# Altium integrated library ON Semi Logic Decoder Demux.IntLib: 66 symbols (part 1 of 2)
Pins are listed as number, name and electrical type; pins without a type are passive.

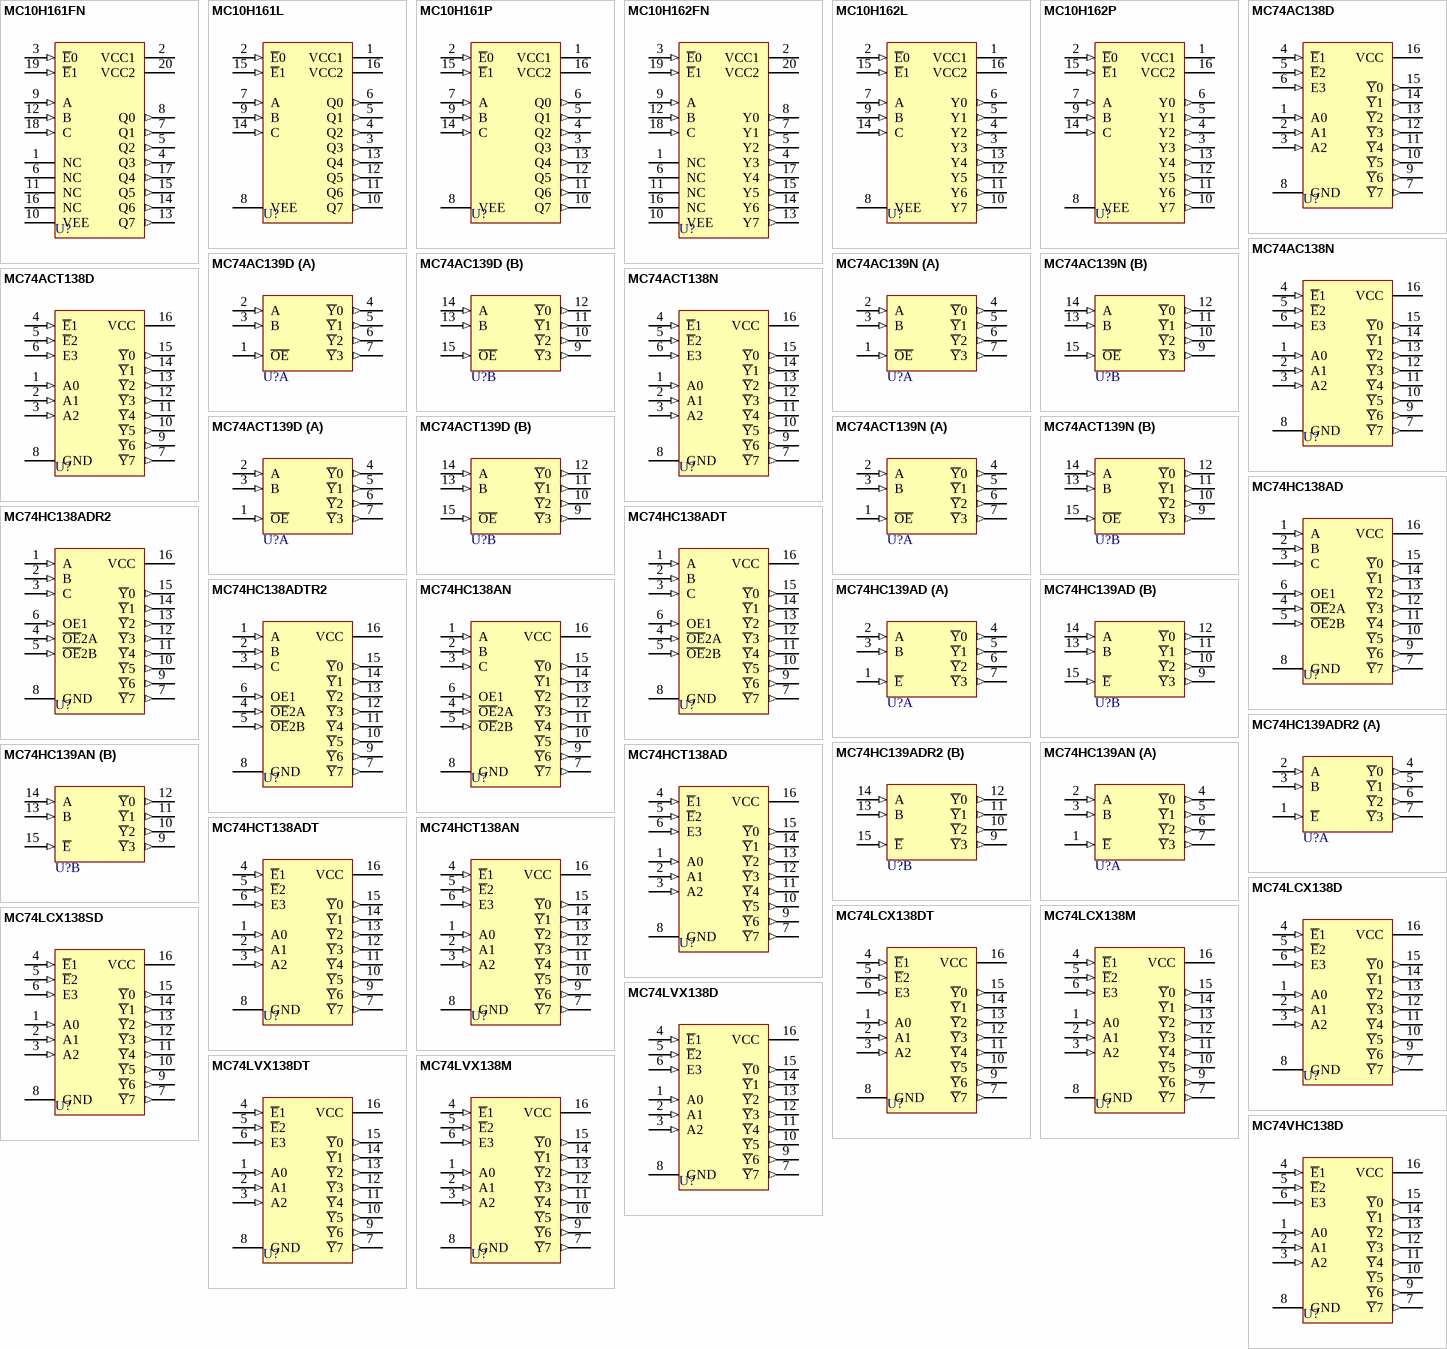
[diagram p0: symbols MC10H161FN to MC74VHC138D]

## MC10H161FN
designator U?
Binary to 1-8 Decoder (Low); Published: 15-Apr-2002; LatestRevisionDate: 13-Apr-2006; LatestRevisionNote: IPC-7351 Footprint Added.; DatasheetVersion: 1996; PackageVersion: 1996; PackageReference: 775-02; Publisher: Altium Limited; PackageDescription: 20-Pin Leaded Chip Carrier 1.27 mm Pitch; ComponentLink1Description: Manufacturer Link; ComponentLink1URL: http://www.onsemi.com/; ComponentLink2Description: Datasheet; ComponentLink2URL: http://www.onsemi.com/pub/Collateral/MC10H161-D.PDF
footprint 775-02_N (Leaded Chip Carrier, 20-Leads, Body 9x9mm, Pitch 1.27mm, IPC Medium Density)
footprint 775-02_L (Leaded Chip Carrier, 20-Leads, Body 9x9mm, Pitch 1.27mm, IPC High Density)
footprint 775-02_M (Leaded Chip Carrier, 20-Leads, Body 9x9mm, Pitch 1.27mm, IPC Low Density)
pins: 1 NC, 2 VCC1 (power), 3 ~{E}0 (in), 4 Q3 (out), 5 Q2 (out), 6 NC, 7 Q1 (out), 8 Q0 (out), 9 A (in), 10 VEE (power), 11 NC, 12 B (in), 13 Q7 (out), 14 Q6 (out), 15 Q5 (out), 16 NC, 17 Q4 (out), 18 C (in), 19 ~{E}1 (in), 20 VCC2 (power)

## MC10H161L
designator U?
Binary to 1-8 Decoder (Low); Published: 15-Apr-2002; DatasheetVersion: 1996; PackageVersion: 1996; PackageReference: 620-10; Publisher: Altium Limited; PackageDescription: DIP; 16 Leads; Row Spacing 7.62 mm; Pitch 2.54 mm; ComponentLink1Description: Manufacturer Link; ComponentLink1URL: http://www.onsemi.com/; ComponentLink2Description: Datasheet; ComponentLink2URL: http://www.onsemi.com/pub/Collateral/MC10H161-D.PDF
footprint 620-10 (DIP; 16 Leads; Row Spacing 7.62 mm; Pitch 2.54 mm)
pins: 1 VCC1 (power), 2 ~{E}0 (in), 3 Q3 (out), 4 Q2 (out), 5 Q1 (out), 6 Q0 (out), 7 A (in), 8 VEE (power), 9 B (in), 10 Q7 (out), 11 Q6 (out), 12 Q5 (out), 13 Q4 (out), 14 C (in), 15 ~{E}1 (in), 16 VCC2 (power)

## MC10H161P
designator U?
Binary to 1-8 Decoder (Low); Published: 15-Apr-2002; DatasheetVersion: 1996; PackageVersion: Apr-2000; PackageReference: 648-08; Publisher: Altium Limited; PackageDescription: DIP; 16 Leads; Row Spacing 7.62 mm; Pitch 2.54 mm; Code_JEDEC: MS-001-BB; ComponentLink1Description: Manufacturer Link; ComponentLink1URL: http://www.onsemi.com/; ComponentLink2Description: Datasheet; ComponentLink2URL: http://www.onsemi.com/pub/Collateral/MC10H161-D.PDF
footprint 648-08 (DIP; 16 Leads; Row Spacing 7.62 mm; Pitch 2.54 mm)
pins: 1 VCC1 (power), 2 ~{E}0 (in), 3 Q3 (out), 4 Q2 (out), 5 Q1 (out), 6 Q0 (out), 7 A (in), 8 VEE (power), 9 B (in), 10 Q7 (out), 11 Q6 (out), 12 Q5 (out), 13 Q4 (out), 14 C (in), 15 ~{E}1 (in), 16 VCC2 (power)

## MC10H162FN
designator U?
Binary to 1-8 Decoder (High); Published: 15-Apr-2002; LatestRevisionDate: 13-Apr-2006; LatestRevisionNote: IPC-7351 Footprint Added.; DatasheetVersion: 1996; PackageVersion: 1996; PackageReference: 775-02; Publisher: Altium Limited; PackageDescription: 20-Pin Leaded Chip Carrier 1.27 mm Pitch; ComponentLink1Description: Manufacturer Link; ComponentLink1URL: http://www.onsemi.com/; ComponentLink2Description: Datasheet; ComponentLink2URL: http://www.onsemi.com/pub/Collateral/MC10H162-D.PDF
footprint 775-02_N (Leaded Chip Carrier, 20-Leads, Body 9x9mm, Pitch 1.27mm, IPC Medium Density)
footprint 775-02_L (Leaded Chip Carrier, 20-Leads, Body 9x9mm, Pitch 1.27mm, IPC High Density)
footprint 775-02_M (Leaded Chip Carrier, 20-Leads, Body 9x9mm, Pitch 1.27mm, IPC Low Density)
pins: 1 NC, 2 VCC1 (power), 3 ~{E}0 (in), 4 Y3 (out), 5 Y2 (out), 6 NC, 7 Y1 (out), 8 Y0 (out), 9 A (in), 10 VEE (power), 11 NC, 12 B (in), 13 Y7 (out), 14 Y6 (out), 15 Y5 (out), 16 NC, 17 Y4 (out), 18 C (in), 19 ~{E}1 (in), 20 VCC2 (power)

## MC10H162L
designator U?
Binary to 1-8 Decoder (High); Published: 15-Apr-2002; DatasheetVersion: 1996; PackageVersion: 1996; PackageReference: 620-10; Publisher: Altium Limited; PackageDescription: DIP; 16 Leads; Row Spacing 7.62 mm; Pitch 2.54 mm; ComponentLink1Description: Manufacturer Link; ComponentLink1URL: http://www.onsemi.com/; ComponentLink2Description: Datasheet; ComponentLink2URL: http://www.onsemi.com/pub/Collateral/MC10H162-D.PDF
footprint 620-10 (DIP; 16 Leads; Row Spacing 7.62 mm; Pitch 2.54 mm)
pins: 1 VCC1 (power), 2 ~{E}0 (in), 3 Y3 (out), 4 Y2 (out), 5 Y1 (out), 6 Y0 (out), 7 A (in), 8 VEE (power), 9 B (in), 10 Y7 (out), 11 Y6 (out), 12 Y5 (out), 13 Y4 (out), 14 C (in), 15 ~{E}1 (in), 16 VCC2 (power)

## MC10H162P
designator U?
Binary to 1-8 Decoder (High); Published: 15-Apr-2002; DatasheetVersion: 1996; PackageVersion: Apr-2000; PackageReference: 648-08; Publisher: Altium Limited; PackageDescription: DIP; 16 Leads; Row Spacing 7.62 mm; Pitch 2.54 mm; Code_JEDEC: MS-001-BB; ComponentLink1Description: Manufacturer Link; ComponentLink1URL: http://www.onsemi.com/; ComponentLink2Description: Datasheet; ComponentLink2URL: http://www.onsemi.com/pub/Collateral/MC10H162-D.PDF
footprint 648-08 (DIP; 16 Leads; Row Spacing 7.62 mm; Pitch 2.54 mm)
pins: 1 VCC1 (power), 2 ~{E}0 (in), 3 Y3 (out), 4 Y2 (out), 5 Y1 (out), 6 Y0 (out), 7 A (in), 8 VEE (power), 9 B (in), 10 Y7 (out), 11 Y6 (out), 12 Y5 (out), 13 Y4 (out), 14 C (in), 15 ~{E}1 (in), 16 VCC2 (power)

## MC74AC138D
designator U?
1-of-8 Decoder/Demultiplexer; Published: 15-Apr-2002; LatestRevisionDate: 13-Apr-2006; LatestRevisionNote: IPC-7351 Footprint Added.; DatasheetVersion: 9-Apr-1996; PackageVersion: Oct-1999; PackageReference: 751B-05; Publisher: Altium Limited; PackageDescription: 16-Pin Small Outline Integrated Circuit 1.27 mm Pitch; Code_JEDEC: MS-012-AC; Code_IPC: SOIC127P600-16; ComponentLink1Description: Manufacturer Link; ComponentLink1URL: http://www.onsemi.com/; ComponentLink2Description: Datasheet; ComponentLink2URL: http://www.onsemi.com/pub/Collateral/MC74AC138-D.PDF
footprint 751B-05_N (SOIC, 16-Leads, Body 9.9x3.9mm, Pitch 1.27mm, IPC Medium Density)
footprint 751B-05_L (SOIC, 16-Leads, Body 9.9x3.9mm, Pitch 1.27mm, IPC High Density)
footprint 751B-05_M (SOIC, 16-Leads, Body 9.9x3.9mm, Pitch 1.27mm, IPC Low Density)
signal-integrity model MC74AC138D
pins: 1 A0 (in), 2 A1 (in), 3 A2 (in), 4 ~{E}1 (in), 5 ~{E}2 (in), 6 E3 (in), 7 ~{Y}7 (out), 8 GND (power), 9 ~{Y}6 (out), 10 ~{Y}5 (out), 11 ~{Y}4 (out), 12 ~{Y}3 (out), 13 ~{Y}2 (out), 14 ~{Y}1 (out), 15 ~{Y}0 (out), 16 VCC (power)

## MC74AC138N
designator U?
1-of-8 Decoder/Demultiplexer; Published: 15-Apr-2002; DatasheetVersion: 9-Apr-1996; PackageVersion: Apr-2000; PackageReference: 648-08; Publisher: Altium Limited; PackageDescription: DIP; 16 Leads; Row Spacing 7.62 mm; Pitch 2.54 mm; Code_JEDEC: MS-001-BB; ComponentLink1Description: Manufacturer Link; ComponentLink1URL: http://www.onsemi.com/; ComponentLink2Description: Datasheet; ComponentLink2URL: http://www.onsemi.com/pub/Collateral/MC74AC138-D.PDF
footprint 648-08 (DIP; 16 Leads; Row Spacing 7.62 mm; Pitch 2.54 mm)
signal-integrity model MC74AC138N
pins: 1 A0 (in), 2 A1 (in), 3 A2 (in), 4 ~{E}1 (in), 5 ~{E}2 (in), 6 E3 (in), 7 ~{Y}7 (out), 8 GND (power), 9 ~{Y}6 (out), 10 ~{Y}5 (out), 11 ~{Y}4 (out), 12 ~{Y}3 (out), 13 ~{Y}2 (out), 14 ~{Y}1 (out), 15 ~{Y}0 (out), 16 VCC (power)

## MC74AC139D
designator U?
Dual 1-of-4 Decoder/Demultiplexer; Published: 15-Apr-2002; LatestRevisionDate: 13-Apr-2006; LatestRevisionNote: IPC-7351 Footprint Added.; DatasheetVersion: 9-Apr-1996; PackageVersion: Oct-1999; PackageReference: 751B-05; Publisher: Altium Limited; PackageDescription: 16-Pin Small Outline Integrated Circuit 1.27 mm Pitch; Code_JEDEC: MS-012-AC; Code_IPC: SOIC127P600-16; ComponentLink1Description: Manufacturer Link; ComponentLink1URL: http://www.onsemi.com/; ComponentLink2Description: Datasheet; ComponentLink2URL: http://www.onsemi.com/pub/Collateral/MC74AC139-D.PDF
footprint 751B-05_N (SOIC, 16-Leads, Body 9.9x3.9mm, Pitch 1.27mm, IPC Medium Density)
footprint 751B-05_L (SOIC, 16-Leads, Body 9.9x3.9mm, Pitch 1.27mm, IPC High Density)
footprint 751B-05_M (SOIC, 16-Leads, Body 9.9x3.9mm, Pitch 1.27mm, IPC Low Density)
signal-integrity model MC74AC139D
pins on every part: 8 GND (power) hidden to GND, 16 VCC (power) hidden to VCC
part A pins: 1 ~{OE} (in), 2 A (in), 3 B (in), 4 ~{Y}0 (out), 5 ~{Y}1 (out), 6 ~{Y}2 (out), 7 ~{Y}3 (out)
part B pins: 9 ~{Y}3 (out), 10 ~{Y}2 (out), 11 ~{Y}1 (out), 12 ~{Y}0 (out), 13 B (in), 14 A (in), 15 ~{OE} (in)

## MC74AC139N
designator U?
Dual 1-of-4 Decoder/Demultiplexer; Published: 15-Apr-2002; DatasheetVersion: 9-Apr-1996; PackageVersion: Apr-2000; PackageReference: 648-08; Publisher: Altium Limited; PackageDescription: DIP; 16 Leads; Row Spacing 7.62 mm; Pitch 2.54 mm; Code_JEDEC: MS-001-BB; ComponentLink1Description: Manufacturer Link; ComponentLink1URL: http://www.onsemi.com/; ComponentLink2Description: Datasheet; ComponentLink2URL: http://www.onsemi.com/pub/Collateral/MC74AC139-D.PDF
footprint 648-08 (DIP; 16 Leads; Row Spacing 7.62 mm; Pitch 2.54 mm)
signal-integrity model MC74AC139N
pins on every part: 8 GND (power) hidden to GND, 16 VCC (power) hidden to VCC
part A pins: 1 ~{OE} (in), 2 A (in), 3 B (in), 4 ~{Y}0 (out), 5 ~{Y}1 (out), 6 ~{Y}2 (out), 7 ~{Y}3 (out)
part B pins: 9 ~{Y}3 (out), 10 ~{Y}2 (out), 11 ~{Y}1 (out), 12 ~{Y}0 (out), 13 B (in), 14 A (in), 15 ~{OE} (in)

## MC74ACT138D
designator U?
1-of-8 Decoder/Demultiplexer; Published: 15-Apr-2002; LatestRevisionDate: 13-Apr-2006; LatestRevisionNote: IPC-7351 Footprint Added.; DatasheetVersion: 9-Apr-1996; PackageVersion: Oct-1999; PackageReference: 751B-05; Publisher: Altium Limited; PackageDescription: 16-Pin Small Outline Integrated Circuit 1.27 mm Pitch; Code_JEDEC: MS-012-AC; Code_IPC: SOIC127P600-16; ComponentLink1Description: Manufacturer Link; ComponentLink1URL: http://www.onsemi.com/; ComponentLink2Description: Datasheet; ComponentLink2URL: http://www.onsemi.com/pub/Collateral/MC74AC138-D.PDF
footprint 751B-05_N (SOIC, 16-Leads, Body 9.9x3.9mm, Pitch 1.27mm, IPC Medium Density)
footprint 751B-05_L (SOIC, 16-Leads, Body 9.9x3.9mm, Pitch 1.27mm, IPC High Density)
footprint 751B-05_M (SOIC, 16-Leads, Body 9.9x3.9mm, Pitch 1.27mm, IPC Low Density)
signal-integrity model MC74ACT138D
pins: 1 A0 (in), 2 A1 (in), 3 A2 (in), 4 ~{E}1 (in), 5 ~{E}2 (in), 6 E3 (in), 7 ~{Y}7 (out), 8 GND (power), 9 ~{Y}6 (out), 10 ~{Y}5 (out), 11 ~{Y}4 (out), 12 ~{Y}3 (out), 13 ~{Y}2 (out), 14 ~{Y}1 (out), 15 ~{Y}0 (out), 16 VCC (power)

## MC74ACT138N
designator U?
1-of-8 Decoder/Demultiplexer; Published: 15-Apr-2002; DatasheetVersion: 9-Apr-1996; PackageVersion: Apr-2000; PackageReference: 648-08; Publisher: Altium Limited; PackageDescription: DIP; 16 Leads; Row Spacing 7.62 mm; Pitch 2.54 mm; Code_JEDEC: MS-001-BB; ComponentLink1Description: Manufacturer Link; ComponentLink1URL: http://www.onsemi.com/; ComponentLink2Description: Datasheet; ComponentLink2URL: http://www.onsemi.com/pub/Collateral/MC74AC138-D.PDF
footprint 648-08 (DIP; 16 Leads; Row Spacing 7.62 mm; Pitch 2.54 mm)
signal-integrity model MC74ACT138N
pins: 1 A0 (in), 2 A1 (in), 3 A2 (in), 4 ~{E}1 (in), 5 ~{E}2 (in), 6 E3 (in), 7 ~{Y}7 (out), 8 GND (power), 9 ~{Y}6 (out), 10 ~{Y}5 (out), 11 ~{Y}4 (out), 12 ~{Y}3 (out), 13 ~{Y}2 (out), 14 ~{Y}1 (out), 15 ~{Y}0 (out), 16 VCC (power)

## MC74ACT139D
designator U?
Dual 1-of-4 Decoder/Demultiplexer; Published: 15-Apr-2002; LatestRevisionDate: 13-Apr-2006; LatestRevisionNote: IPC-7351 Footprint Added.; DatasheetVersion: 9-Apr-1996; PackageVersion: Oct-1999; PackageReference: 751B-05; Publisher: Altium Limited; PackageDescription: 16-Pin Small Outline Integrated Circuit 1.27 mm Pitch; Code_JEDEC: MS-012-AC; Code_IPC: SOIC127P600-16; ComponentLink1Description: Manufacturer Link; ComponentLink1URL: http://www.onsemi.com/; ComponentLink2Description: Datasheet; ComponentLink2URL: http://www.onsemi.com/pub/Collateral/MC74AC139-D.PDF
footprint 751B-05_N (SOIC, 16-Leads, Body 9.9x3.9mm, Pitch 1.27mm, IPC Medium Density)
footprint 751B-05_L (SOIC, 16-Leads, Body 9.9x3.9mm, Pitch 1.27mm, IPC High Density)
footprint 751B-05_M (SOIC, 16-Leads, Body 9.9x3.9mm, Pitch 1.27mm, IPC Low Density)
signal-integrity model MC74ACT139D
pins on every part: 8 GND (power) hidden to GND, 16 VCC (power) hidden to VCC
part A pins: 1 ~{OE} (in), 2 A (in), 3 B (in), 4 ~{Y}0 (out), 5 ~{Y}1 (out), 6 ~{Y}2 (out), 7 ~{Y}3 (out)
part B pins: 9 ~{Y}3 (out), 10 ~{Y}2 (out), 11 ~{Y}1 (out), 12 ~{Y}0 (out), 13 B (in), 14 A (in), 15 ~{OE} (in)

## MC74ACT139N
designator U?
Dual 1-of-4 Decoder/Demultiplexer; Published: 15-Apr-2002; DatasheetVersion: 9-Apr-1996; PackageVersion: Apr-2000; PackageReference: 648-08; Publisher: Altium Limited; PackageDescription: DIP; 16 Leads; Row Spacing 7.62 mm; Pitch 2.54 mm; Code_JEDEC: MS-001-BB; ComponentLink1Description: Manufacturer Link; ComponentLink1URL: http://www.onsemi.com/; ComponentLink2Description: Datasheet; ComponentLink2URL: http://www.onsemi.com/pub/Collateral/MC74AC139-D.PDF
footprint 648-08 (DIP; 16 Leads; Row Spacing 7.62 mm; Pitch 2.54 mm)
signal-integrity model MC74ACT139N
pins on every part: 8 GND (power) hidden to GND, 16 VCC (power) hidden to VCC
part A pins: 1 ~{OE} (in), 2 A (in), 3 B (in), 4 ~{Y}0 (out), 5 ~{Y}1 (out), 6 ~{Y}2 (out), 7 ~{Y}3 (out)
part B pins: 9 ~{Y}3 (out), 10 ~{Y}2 (out), 11 ~{Y}1 (out), 12 ~{Y}0 (out), 13 B (in), 14 A (in), 15 ~{OE} (in)

## MC74HC138AD
designator U?
1-of-8 Decoder/Demultiplexer; Published: 15-Apr-2002; LatestRevisionDate: 13-Apr-2006; LatestRevisionNote: IPC-7351 Footprint Added.; DatasheetVersion: Mar-2000; PackageVersion: Oct-1999; PackageReference: 751B-05; Publisher: Altium Limited; PackageDescription: 16-Pin Small Outline Integrated Circuit 1.27 mm Pitch; Code_JEDEC: MS-012-AC; Code_IPC: SOIC127P600-16; ComponentLink1Description: Manufacturer Link; ComponentLink1URL: http://www.onsemi.com/; ComponentLink2Description: Datasheet; ComponentLink2URL: http://www.onsemi.com/pub/Collateral/MC74HC138A-D.PDF
footprint 751B-05_N (SOIC, 16-Leads, Body 9.9x3.9mm, Pitch 1.27mm, IPC Medium Density)
footprint 751B-05_L (SOIC, 16-Leads, Body 9.9x3.9mm, Pitch 1.27mm, IPC High Density)
footprint 751B-05_M (SOIC, 16-Leads, Body 9.9x3.9mm, Pitch 1.27mm, IPC Low Density)
signal-integrity model MC74HC138AD
pins: 1 A (in), 2 B (in), 3 C (in), 4 ~{OE}2A (in), 5 ~{OE}2B (in), 6 OE1 (in), 7 ~{Y}7 (out), 8 GND (power), 9 ~{Y}6 (out), 10 ~{Y}5 (out), 11 ~{Y}4 (out), 12 ~{Y}3 (out), 13 ~{Y}2 (out), 14 ~{Y}1 (out), 15 ~{Y}0 (out), 16 VCC (power)

## MC74HC138ADR2
designator U?
1-of-8 Decoder/Demultiplexer; Published: 15-Apr-2002; LatestRevisionDate: 13-Apr-2006; LatestRevisionNote: IPC-7351 Footprint Added.; DatasheetVersion: Mar-2000; PackageVersion: Oct-1999; PackageReference: 751B-05; Publisher: Altium Limited; PackageDescription: 16-Pin Small Outline Integrated Circuit 1.27 mm Pitch; Code_JEDEC: MS-012-AC; Code_IPC: SOIC127P600-16; ComponentLink1Description: Manufacturer Link; ComponentLink1URL: http://www.onsemi.com/; ComponentLink2Description: Datasheet; ComponentLink2URL: http://www.onsemi.com/pub/Collateral/MC74HC138A-D.PDF
footprint 751B-05_N (SOIC, 16-Leads, Body 9.9x3.9mm, Pitch 1.27mm, IPC Medium Density)
footprint 751B-05_L (SOIC, 16-Leads, Body 9.9x3.9mm, Pitch 1.27mm, IPC High Density)
footprint 751B-05_M (SOIC, 16-Leads, Body 9.9x3.9mm, Pitch 1.27mm, IPC Low Density)
signal-integrity model MC74HC138ADR2
pins: 1 A (in), 2 B (in), 3 C (in), 4 ~{OE}2A (in), 5 ~{OE}2B (in), 6 OE1 (in), 7 ~{Y}7 (out), 8 GND (power), 9 ~{Y}6 (out), 10 ~{Y}5 (out), 11 ~{Y}4 (out), 12 ~{Y}3 (out), 13 ~{Y}2 (out), 14 ~{Y}1 (out), 15 ~{Y}0 (out), 16 VCC (power)

## MC74HC138ADT
designator U?
1-of-8 Decoder/Demultiplexer; Published: 15-Apr-2002; LatestRevisionDate: 12-Dec-2006; LatestRevisionNote: IPC-7351 Footprint Added.; DatasheetVersion: Mar-2000; PackageVersion: Feb-2000; PackageReference: 948F-01; Publisher: Altium Limited; PackageDescription: 16-Pin Thin Small Outline Package 0.65 mm Pitch; ComponentLink1Description: Manufacturer Link; ComponentLink1URL: http://www.onsemi.com/; ComponentLink2Description: Datasheet; ComponentLink2URL: http://www.onsemi.com/pub/Collateral/MC74HC138A-D.PDF
footprint 948F-01_N (TSOP, 16-Leads, Body 5x4.4mm, Pitch 0.65mm, IPC Medium Density)
footprint 948F-01_L (TSOP, 16-Leads, Body 5x4.4mm, Pitch 0.65mm, IPC High Density)
footprint 948F-01_M (TSOP, 16-Leads, Body 5x4.4mm, Pitch 0.65mm, IPC Low Density)
signal-integrity model MC74HC138ADT
pins: 1 A (in), 2 B (in), 3 C (in), 4 ~{OE}2A (in), 5 ~{OE}2B (in), 6 OE1 (in), 7 ~{Y}7 (out), 8 GND (power), 9 ~{Y}6 (out), 10 ~{Y}5 (out), 11 ~{Y}4 (out), 12 ~{Y}3 (out), 13 ~{Y}2 (out), 14 ~{Y}1 (out), 15 ~{Y}0 (out), 16 VCC (power)

## MC74HC138ADTR2
designator U?
1-of-8 Decoder/Demultiplexer; Published: 15-Apr-2002; LatestRevisionDate: 12-Dec-2006; LatestRevisionNote: IPC-7351 Footprint Added.; DatasheetVersion: Mar-2000; PackageVersion: Feb-2000; PackageReference: 948F-01; Publisher: Altium Limited; PackageDescription: 16-Pin Thin Small Outline Package 0.65 mm Pitch; ComponentLink1Description: Manufacturer Link; ComponentLink1URL: http://www.onsemi.com/; ComponentLink2Description: Datasheet; ComponentLink2URL: http://www.onsemi.com/pub/Collateral/MC74HC138A-D.PDF
footprint 948F-01_N (TSOP, 16-Leads, Body 5x4.4mm, Pitch 0.65mm, IPC Medium Density)
footprint 948F-01_L (TSOP, 16-Leads, Body 5x4.4mm, Pitch 0.65mm, IPC High Density)
footprint 948F-01_M (TSOP, 16-Leads, Body 5x4.4mm, Pitch 0.65mm, IPC Low Density)
signal-integrity model MC74HC138ADTR2
pins: 1 A (in), 2 B (in), 3 C (in), 4 ~{OE}2A (in), 5 ~{OE}2B (in), 6 OE1 (in), 7 ~{Y}7 (out), 8 GND (power), 9 ~{Y}6 (out), 10 ~{Y}5 (out), 11 ~{Y}4 (out), 12 ~{Y}3 (out), 13 ~{Y}2 (out), 14 ~{Y}1 (out), 15 ~{Y}0 (out), 16 VCC (power)

## MC74HC138AN
designator U?
1-of-8 Decoder/Demultiplexer; Published: 15-Apr-2002; DatasheetVersion: Mar-2000; PackageVersion: Apr-2000; PackageReference: 648-08; Publisher: Altium Limited; PackageDescription: DIP; 16 Leads; Row Spacing 7.62 mm; Pitch 2.54 mm; Code_JEDEC: MS-001-BB; ComponentLink1Description: Manufacturer Link; ComponentLink1URL: http://www.onsemi.com/; ComponentLink2Description: Datasheet; ComponentLink2URL: http://www.onsemi.com/pub/Collateral/MC74HC138A-D.PDF
footprint 648-08 (DIP; 16 Leads; Row Spacing 7.62 mm; Pitch 2.54 mm)
signal-integrity model MC74HC138AN
pins: 1 A (in), 2 B (in), 3 C (in), 4 ~{OE}2A (in), 5 ~{OE}2B (in), 6 OE1 (in), 7 ~{Y}7 (out), 8 GND (power), 9 ~{Y}6 (out), 10 ~{Y}5 (out), 11 ~{Y}4 (out), 12 ~{Y}3 (out), 13 ~{Y}2 (out), 14 ~{Y}1 (out), 15 ~{Y}0 (out), 16 VCC (power)

## MC74HC139AD
designator U?
Dual 1-of-4 Decoder/Demultiplexer; Published: 15-Apr-2002; LatestRevisionDate: 13-Apr-2006; LatestRevisionNote: IPC-7351 Footprint Added.; DatasheetVersion: Mar-2000; PackageVersion: Oct-1999; PackageReference: 751B-05; Publisher: Altium Limited; PackageDescription: 16-Pin Small Outline Integrated Circuit 1.27 mm Pitch; Code_JEDEC: MS-012-AC; Code_IPC: SOIC127P600-16; ComponentLink1Description: Manufacturer Link; ComponentLink1URL: http://www.onsemi.com/; ComponentLink2Description: Datasheet; ComponentLink2URL: http://www.onsemi.com/pub/Collateral/MC74HC139A-D.PDF
footprint 751B-05_N (SOIC, 16-Leads, Body 9.9x3.9mm, Pitch 1.27mm, IPC Medium Density)
footprint 751B-05_L (SOIC, 16-Leads, Body 9.9x3.9mm, Pitch 1.27mm, IPC High Density)
footprint 751B-05_M (SOIC, 16-Leads, Body 9.9x3.9mm, Pitch 1.27mm, IPC Low Density)
signal-integrity model MC74HC139AD
pins on every part: 8 GND (power) hidden to GND, 16 VCC (power) hidden to VCC
part A pins: 1 ~{E} (in), 2 A (in), 3 B (in), 4 ~{Y}0 (out), 5 ~{Y}1 (out), 6 ~{Y}2 (out), 7 ~{Y}3 (out)
part B pins: 9 ~{Y}3 (out), 10 ~{Y}2 (out), 11 ~{Y}1 (out), 12 ~{Y}0 (out), 13 B (in), 14 A (in), 15 ~{E} (in)

## MC74HC139ADR2
designator U?
Dual 1-of-4 Decoder/Demultiplexer; Published: 15-Apr-2002; LatestRevisionDate: 13-Apr-2006; LatestRevisionNote: IPC-7351 Footprint Added.; DatasheetVersion: Mar-2000; PackageVersion: Oct-1999; PackageReference: 751B-05; Publisher: Altium Limited; PackageDescription: 16-Pin Small Outline Integrated Circuit 1.27 mm Pitch; Code_JEDEC: MS-012-AC; Code_IPC: SOIC127P600-16; ComponentLink1Description: Manufacturer Link; ComponentLink1URL: http://www.onsemi.com/; ComponentLink2Description: Datasheet; ComponentLink2URL: http://www.onsemi.com/pub/Collateral/MC74HC139A-D.PDF
footprint 751B-05_N (SOIC, 16-Leads, Body 9.9x3.9mm, Pitch 1.27mm, IPC Medium Density)
footprint 751B-05_L (SOIC, 16-Leads, Body 9.9x3.9mm, Pitch 1.27mm, IPC High Density)
footprint 751B-05_M (SOIC, 16-Leads, Body 9.9x3.9mm, Pitch 1.27mm, IPC Low Density)
signal-integrity model MC74HC139ADR2
pins on every part: 8 GND (power) hidden to GND, 16 VCC (power) hidden to VCC
part A pins: 1 ~{E} (in), 2 A (in), 3 B (in), 4 ~{Y}0 (out), 5 ~{Y}1 (out), 6 ~{Y}2 (out), 7 ~{Y}3 (out)
part B pins: 9 ~{Y}3 (out), 10 ~{Y}2 (out), 11 ~{Y}1 (out), 12 ~{Y}0 (out), 13 B (in), 14 A (in), 15 ~{E} (in)

## MC74HC139AN
designator U?
Dual 1-of-4 Decoder/Demultiplexer; Published: 15-Apr-2002; DatasheetVersion: Mar-2000; PackageVersion: Apr-2000; PackageReference: 648-08; Publisher: Altium Limited; PackageDescription: DIP; 16 Leads; Row Spacing 7.62 mm; Pitch 2.54 mm; Code_JEDEC: MS-001-BB; ComponentLink1Description: Manufacturer Link; ComponentLink1URL: http://www.onsemi.com/; ComponentLink2Description: Datasheet; ComponentLink2URL: http://www.onsemi.com/pub/Collateral/MC74HC139A-D.PDF
footprint 648-08 (DIP; 16 Leads; Row Spacing 7.62 mm; Pitch 2.54 mm)
signal-integrity model MC74HC139AN
pins on every part: 8 GND (power) hidden to GND, 16 VCC (power) hidden to VCC
part A pins: 1 ~{E} (in), 2 A (in), 3 B (in), 4 ~{Y}0 (out), 5 ~{Y}1 (out), 6 ~{Y}2 (out), 7 ~{Y}3 (out)
part B pins: 9 ~{Y}3 (out), 10 ~{Y}2 (out), 11 ~{Y}1 (out), 12 ~{Y}0 (out), 13 B (in), 14 A (in), 15 ~{E} (in)

## MC74HCT138AD
designator U?
1-of-8 Decoder/Demultiplexer with LSTTL Compatible Inputs; Published: 15-Apr-2002; LatestRevisionDate: 13-Apr-2006; LatestRevisionNote: IPC-7351 Footprint Added.; DatasheetVersion: 1995; PackageVersion: Oct-1999; PackageReference: 751B-05; Publisher: Altium Limited; PackageDescription: 16-Pin Small Outline Integrated Circuit 1.27 mm Pitch; Code_JEDEC: MS-012-AC; Code_IPC: SOIC127P600-16; ComponentLink1Description: Manufacturer Link; ComponentLink1URL: http://www.onsemi.com/; ComponentLink2Description: Datasheet; ComponentLink2URL: http://www.onsemi.com/pub/Collateral/MC74HCT138A-D.PDF
footprint 751B-05_N (SOIC, 16-Leads, Body 9.9x3.9mm, Pitch 1.27mm, IPC Medium Density)
footprint 751B-05_L (SOIC, 16-Leads, Body 9.9x3.9mm, Pitch 1.27mm, IPC High Density)
footprint 751B-05_M (SOIC, 16-Leads, Body 9.9x3.9mm, Pitch 1.27mm, IPC Low Density)
signal-integrity model MC74HCT138AD
pins: 1 A0 (in), 2 A1 (in), 3 A2 (in), 4 ~{E}1 (in), 5 ~{E}2 (in), 6 E3 (in), 7 ~{Y}7 (out), 8 GND (power), 9 ~{Y}6 (out), 10 ~{Y}5 (out), 11 ~{Y}4 (out), 12 ~{Y}3 (out), 13 ~{Y}2 (out), 14 ~{Y}1 (out), 15 ~{Y}0 (out), 16 VCC (power)

## MC74HCT138ADT
designator U?
1-of-8 Decoder/Demultiplexer with LSTTL Compatible Inputs; Published: 15-Apr-2002; LatestRevisionDate: 12-Dec-2006; LatestRevisionNote: IPC-7351 Footprint Added.; DatasheetVersion: 1995; PackageVersion: Feb-2000; PackageReference: 948F-01; Publisher: Altium Limited; PackageDescription: 16-Pin Thin Small Outline Package 0.65 mm Pitch; ComponentLink1Description: Manufacturer Link; ComponentLink1URL: http://www.onsemi.com/; ComponentLink2Description: Datasheet; ComponentLink2URL: http://www.onsemi.com/pub/Collateral/MC74HCT138A-D.PDF
footprint 948F-01_N (TSOP, 16-Leads, Body 5x4.4mm, Pitch 0.65mm, IPC Medium Density)
footprint 948F-01_L (TSOP, 16-Leads, Body 5x4.4mm, Pitch 0.65mm, IPC High Density)
footprint 948F-01_M (TSOP, 16-Leads, Body 5x4.4mm, Pitch 0.65mm, IPC Low Density)
signal-integrity model MC74HCT138ADT
pins: 1 A0 (in), 2 A1 (in), 3 A2 (in), 4 ~{E}1 (in), 5 ~{E}2 (in), 6 E3 (in), 7 ~{Y}7 (out), 8 GND (power), 9 ~{Y}6 (out), 10 ~{Y}5 (out), 11 ~{Y}4 (out), 12 ~{Y}3 (out), 13 ~{Y}2 (out), 14 ~{Y}1 (out), 15 ~{Y}0 (out), 16 VCC (power)

## MC74HCT138AN
designator U?
1-of-8 Decoder/Demultiplexer with LSTTL Compatible Inputs; Published: 15-Apr-2002; DatasheetVersion: 1995; PackageVersion: Apr-2000; PackageReference: 648-08; Publisher: Altium Limited; PackageDescription: DIP; 16 Leads; Row Spacing 7.62 mm; Pitch 2.54 mm; Code_JEDEC: MS-001-BB; ComponentLink1Description: Manufacturer Link; ComponentLink1URL: http://www.onsemi.com/; ComponentLink2Description: Datasheet; ComponentLink2URL: http://www.onsemi.com/pub/Collateral/MC74HCT138A-D.PDF
footprint 648-08 (DIP; 16 Leads; Row Spacing 7.62 mm; Pitch 2.54 mm)
signal-integrity model MC74HCT138AN
pins: 1 A0 (in), 2 A1 (in), 3 A2 (in), 4 ~{E}1 (in), 5 ~{E}2 (in), 6 E3 (in), 7 ~{Y}7 (out), 8 GND (power), 9 ~{Y}6 (out), 10 ~{Y}5 (out), 11 ~{Y}4 (out), 12 ~{Y}3 (out), 13 ~{Y}2 (out), 14 ~{Y}1 (out), 15 ~{Y}0 (out), 16 VCC (power)

## MC74LCX138D
designator U?
Low-Voltage 1-of-8 Decoder/Demultiplexer with 5V-Tolerant Inputs; Published: 15-Apr-2002; LatestRevisionDate: 13-Apr-2006; LatestRevisionNote: IPC-7351 Footprint Added.; DatasheetVersion: 1996; PackageVersion: Oct-1999; PackageReference: 751B-05; Publisher: Altium Limited; PackageDescription: 16-Pin Small Outline Integrated Circuit 1.27 mm Pitch; Code_JEDEC: MS-012-AC; Code_IPC: SOIC127P600-16; ComponentLink1Description: Manufacturer Link; ComponentLink1URL: http://www.onsemi.com/; ComponentLink2Description: Datasheet; ComponentLink2URL: http://www.onsemi.com/pub/Collateral/MC74LCX138-D.PDF
footprint 751B-05_N (SOIC, 16-Leads, Body 9.9x3.9mm, Pitch 1.27mm, IPC Medium Density)
footprint 751B-05_L (SOIC, 16-Leads, Body 9.9x3.9mm, Pitch 1.27mm, IPC High Density)
footprint 751B-05_M (SOIC, 16-Leads, Body 9.9x3.9mm, Pitch 1.27mm, IPC Low Density)
pins: 1 A0 (in), 2 A1 (in), 3 A2 (in), 4 ~{E}1 (in), 5 ~{E}2 (in), 6 E3 (in), 7 ~{Y}7 (out), 8 GND (power), 9 ~{Y}6 (out), 10 ~{Y}5 (out), 11 ~{Y}4 (out), 12 ~{Y}3 (out), 13 ~{Y}2 (out), 14 ~{Y}1 (out), 15 ~{Y}0 (out), 16 VCC (power)

## MC74LCX138DT
designator U?
Low-Voltage 1-of-8 Decoder/Demultiplexer with 5V-Tolerant Inputs; Published: 15-Apr-2002; LatestRevisionDate: 12-Dec-2006; LatestRevisionNote: IPC-7351 Footprint Added.; DatasheetVersion: 1996; PackageVersion: Feb-2000; PackageReference: 948F-01; Publisher: Altium Limited; PackageDescription: 16-Pin Thin Small Outline Package 0.65 mm Pitch; ComponentLink1Description: Manufacturer Link; ComponentLink1URL: http://www.onsemi.com/; ComponentLink2Description: Datasheet; ComponentLink2URL: http://www.onsemi.com/pub/Collateral/MC74LCX138-D.PDF
footprint 948F-01_N (TSOP, 16-Leads, Body 5x4.4mm, Pitch 0.65mm, IPC Medium Density)
footprint 948F-01_L (TSOP, 16-Leads, Body 5x4.4mm, Pitch 0.65mm, IPC High Density)
footprint 948F-01_M (TSOP, 16-Leads, Body 5x4.4mm, Pitch 0.65mm, IPC Low Density)
pins: 1 A0 (in), 2 A1 (in), 3 A2 (in), 4 ~{E}1 (in), 5 ~{E}2 (in), 6 E3 (in), 7 ~{Y}7 (out), 8 GND (power), 9 ~{Y}6 (out), 10 ~{Y}5 (out), 11 ~{Y}4 (out), 12 ~{Y}3 (out), 13 ~{Y}2 (out), 14 ~{Y}1 (out), 15 ~{Y}0 (out), 16 VCC (power)

## MC74LCX138M
designator U?
Low-Voltage 1-of-8 Decoder/Demultiplexer with 5V-Tolerant Inputs; Published: 15-Apr-2002; LatestRevisionDate: 13-Apr-2006; LatestRevisionNote: IPC-7351 Footprint Added.; DatasheetVersion: 1996; PackageVersion: 1997; PackageReference: 966-01; Publisher: Altium Limited; PackageDescription: 16-Pin Small Outline Package 1.27 mm Pitch; ComponentLink1Description: Manufacturer Link; ComponentLink1URL: http://www.onsemi.com/; ComponentLink2Description: Datasheet; ComponentLink2URL: http://www.onsemi.com/pub/Collateral/MC74LCX138-D.PDF
footprint 966-01_N (SOP, 16-Leads, Body 10.2x5.3mm, Pitch 1.27mm, IPC Medium Density)
footprint 966-01_L (SOP, 16-Leads, Body 10.2x5.3mm, Pitch 1.27mm, IPC High Density)
footprint 966-01_M (SOP, 16-Leads, Body 10.2x5.3mm, Pitch 1.27mm, IPC Low Density)
pins: 1 A0 (in), 2 A1 (in), 3 A2 (in), 4 ~{E}1 (in), 5 ~{E}2 (in), 6 E3 (in), 7 ~{Y}7 (out), 8 GND (power), 9 ~{Y}6 (out), 10 ~{Y}5 (out), 11 ~{Y}4 (out), 12 ~{Y}3 (out), 13 ~{Y}2 (out), 14 ~{Y}1 (out), 15 ~{Y}0 (out), 16 VCC (power)

## MC74LCX138SD
designator U?
Low-Voltage 1-of-8 Decoder/Demultiplexer with 5V-Tolerant Inputs; Published: 15-Apr-2002; LatestRevisionDate: 12-Dec-2006; LatestRevisionNote: IPC-7351 Footprint Added.; DatasheetVersion: 1996; PackageVersion: 1997; PackageReference: 940B-03; Publisher: Altium Limited; PackageDescription: 16-Pin Small Outline Package 0.65 mm Pitch; Code_JEDEC: MO-150-AC; Code_IPC: SOP65P780-16; ComponentLink1Description: Manufacturer Link; ComponentLink1URL: http://www.onsemi.com/; ComponentLink2Description: Datasheet; ComponentLink2URL: http://www.onsemi.com/pub/Collateral/MC74LCX138-D.PDF
footprint 940B-03_N (SOP, 16-Leads, Body 6.2x5.3mm, Pitch 0.65mm, IPC Medium Density)
footprint 940B-03_L (SOP, 16-Leads, Body 6.2x5.3mm, Pitch 0.65mm, IPC High Density)
footprint 940B-03_M (SOP, 16-Leads, Body 6.2x5.3mm, Pitch 0.65mm, IPC Low Density)
pins: 1 A0 (in), 2 A1 (in), 3 A2 (in), 4 ~{E}1 (in), 5 ~{E}2 (in), 6 E3 (in), 7 ~{Y}7 (out), 8 GND (power), 9 ~{Y}6 (out), 10 ~{Y}5 (out), 11 ~{Y}4 (out), 12 ~{Y}3 (out), 13 ~{Y}2 (out), 14 ~{Y}1 (out), 15 ~{Y}0 (out), 16 VCC (power)

## MC74LVX138D
designator U?
3-to-8 Line Decoder with 5V-Tolerant Inputs; Published: 15-Apr-2002; LatestRevisionDate: 13-Apr-2006; LatestRevisionNote: IPC-7351 Footprint Added.; DatasheetVersion: 1997; PackageVersion: Oct-1999; PackageReference: 751B-05; Publisher: Altium Limited; PackageDescription: 16-Pin Small Outline Integrated Circuit 1.27 mm Pitch; Code_JEDEC: MS-012-AC; Code_IPC: SOIC127P600-16; ComponentLink1Description: Manufacturer Link; ComponentLink1URL: http://www.onsemi.com/; ComponentLink2Description: Datasheet; ComponentLink2URL: http://www.onsemi.com/pub/Collateral/MC74LVX138-D.PDF
footprint 751B-05_N (SOIC, 16-Leads, Body 9.9x3.9mm, Pitch 1.27mm, IPC Medium Density)
footprint 751B-05_L (SOIC, 16-Leads, Body 9.9x3.9mm, Pitch 1.27mm, IPC High Density)
footprint 751B-05_M (SOIC, 16-Leads, Body 9.9x3.9mm, Pitch 1.27mm, IPC Low Density)
pins: 1 A0 (in), 2 A1 (in), 3 A2 (in), 4 ~{E}1 (in), 5 ~{E}2 (in), 6 E3 (in), 7 ~{Y}7 (out), 8 GND (power), 9 ~{Y}6 (out), 10 ~{Y}5 (out), 11 ~{Y}4 (out), 12 ~{Y}3 (out), 13 ~{Y}2 (out), 14 ~{Y}1 (out), 15 ~{Y}0 (out), 16 VCC (power)

## MC74LVX138DT
designator U?
3-to-8 Line Decoder with 5V-Tolerant Inputs; Published: 15-Apr-2002; LatestRevisionDate: 12-Dec-2006; LatestRevisionNote: IPC-7351 Footprint Added.; DatasheetVersion: 1997; PackageVersion: Feb-2000; PackageReference: 948F-01; Publisher: Altium Limited; PackageDescription: 16-Pin Thin Small Outline Package 0.65 mm Pitch; ComponentLink1Description: Manufacturer Link; ComponentLink1URL: http://www.onsemi.com/; ComponentLink2Description: Datasheet; ComponentLink2URL: http://www.onsemi.com/pub/Collateral/MC74LVX138-D.PDF
footprint 948F-01_N (TSOP, 16-Leads, Body 5x4.4mm, Pitch 0.65mm, IPC Medium Density)
footprint 948F-01_L (TSOP, 16-Leads, Body 5x4.4mm, Pitch 0.65mm, IPC High Density)
footprint 948F-01_M (TSOP, 16-Leads, Body 5x4.4mm, Pitch 0.65mm, IPC Low Density)
pins: 1 A0 (in), 2 A1 (in), 3 A2 (in), 4 ~{E}1 (in), 5 ~{E}2 (in), 6 E3 (in), 7 ~{Y}7 (out), 8 GND (power), 9 ~{Y}6 (out), 10 ~{Y}5 (out), 11 ~{Y}4 (out), 12 ~{Y}3 (out), 13 ~{Y}2 (out), 14 ~{Y}1 (out), 15 ~{Y}0 (out), 16 VCC (power)

## MC74LVX138M
designator U?
3-to-8 Line Decoder with 5V-Tolerant Inputs; Published: 15-Apr-2002; LatestRevisionDate: 13-Apr-2006; LatestRevisionNote: IPC-7351 Footprint Added.; DatasheetVersion: 1997; PackageVersion: 1997; PackageReference: 966-01; Publisher: Altium Limited; PackageDescription: 16-Pin Small Outline Package 1.27 mm Pitch; ComponentLink1Description: Manufacturer Link; ComponentLink1URL: http://www.onsemi.com/; ComponentLink2Description: Datasheet; ComponentLink2URL: http://www.onsemi.com/pub/Collateral/MC74LVX138-D.PDF
footprint 966-01_N (SOP, 16-Leads, Body 10.2x5.3mm, Pitch 1.27mm, IPC Medium Density)
footprint 966-01_L (SOP, 16-Leads, Body 10.2x5.3mm, Pitch 1.27mm, IPC High Density)
footprint 966-01_M (SOP, 16-Leads, Body 10.2x5.3mm, Pitch 1.27mm, IPC Low Density)
pins: 1 A0 (in), 2 A1 (in), 3 A2 (in), 4 ~{E}1 (in), 5 ~{E}2 (in), 6 E3 (in), 7 ~{Y}7 (out), 8 GND (power), 9 ~{Y}6 (out), 10 ~{Y}5 (out), 11 ~{Y}4 (out), 12 ~{Y}3 (out), 13 ~{Y}2 (out), 14 ~{Y}1 (out), 15 ~{Y}0 (out), 16 VCC (power)

## MC74VHC138D
designator U?
3-to-8 Line Decoder; Published: 15-Apr-2002; LatestRevisionDate: 13-Apr-2006; LatestRevisionNote: IPC-7351 Footprint Added.; DatasheetVersion: 1997; PackageVersion: Oct-1999; PackageReference: 751B-05; Publisher: Altium Limited; PackageDescription: 16-Pin Small Outline Integrated Circuit 1.27 mm Pitch; Code_JEDEC: MS-012-AC; Code_IPC: SOIC127P600-16; ComponentLink1Description: Manufacturer Link; ComponentLink1URL: http://www.onsemi.com/; ComponentLink2Description: Datasheet; ComponentLink2URL: http://www.onsemi.com/pub/Collateral/MC74VHC138-D.PDF
footprint 751B-05_N (SOIC, 16-Leads, Body 9.9x3.9mm, Pitch 1.27mm, IPC Medium Density)
footprint 751B-05_L (SOIC, 16-Leads, Body 9.9x3.9mm, Pitch 1.27mm, IPC High Density)
footprint 751B-05_M (SOIC, 16-Leads, Body 9.9x3.9mm, Pitch 1.27mm, IPC Low Density)
pins: 1 A0 (in), 2 A1 (in), 3 A2 (in), 4 ~{E}1 (in), 5 ~{E}2 (in), 6 E3 (in), 7 ~{Y}7 (out), 8 GND (power), 9 ~{Y}6 (out), 10 ~{Y}5 (out), 11 ~{Y}4 (out), 12 ~{Y}3 (out), 13 ~{Y}2 (out), 14 ~{Y}1 (out), 15 ~{Y}0 (out), 16 VCC (power)

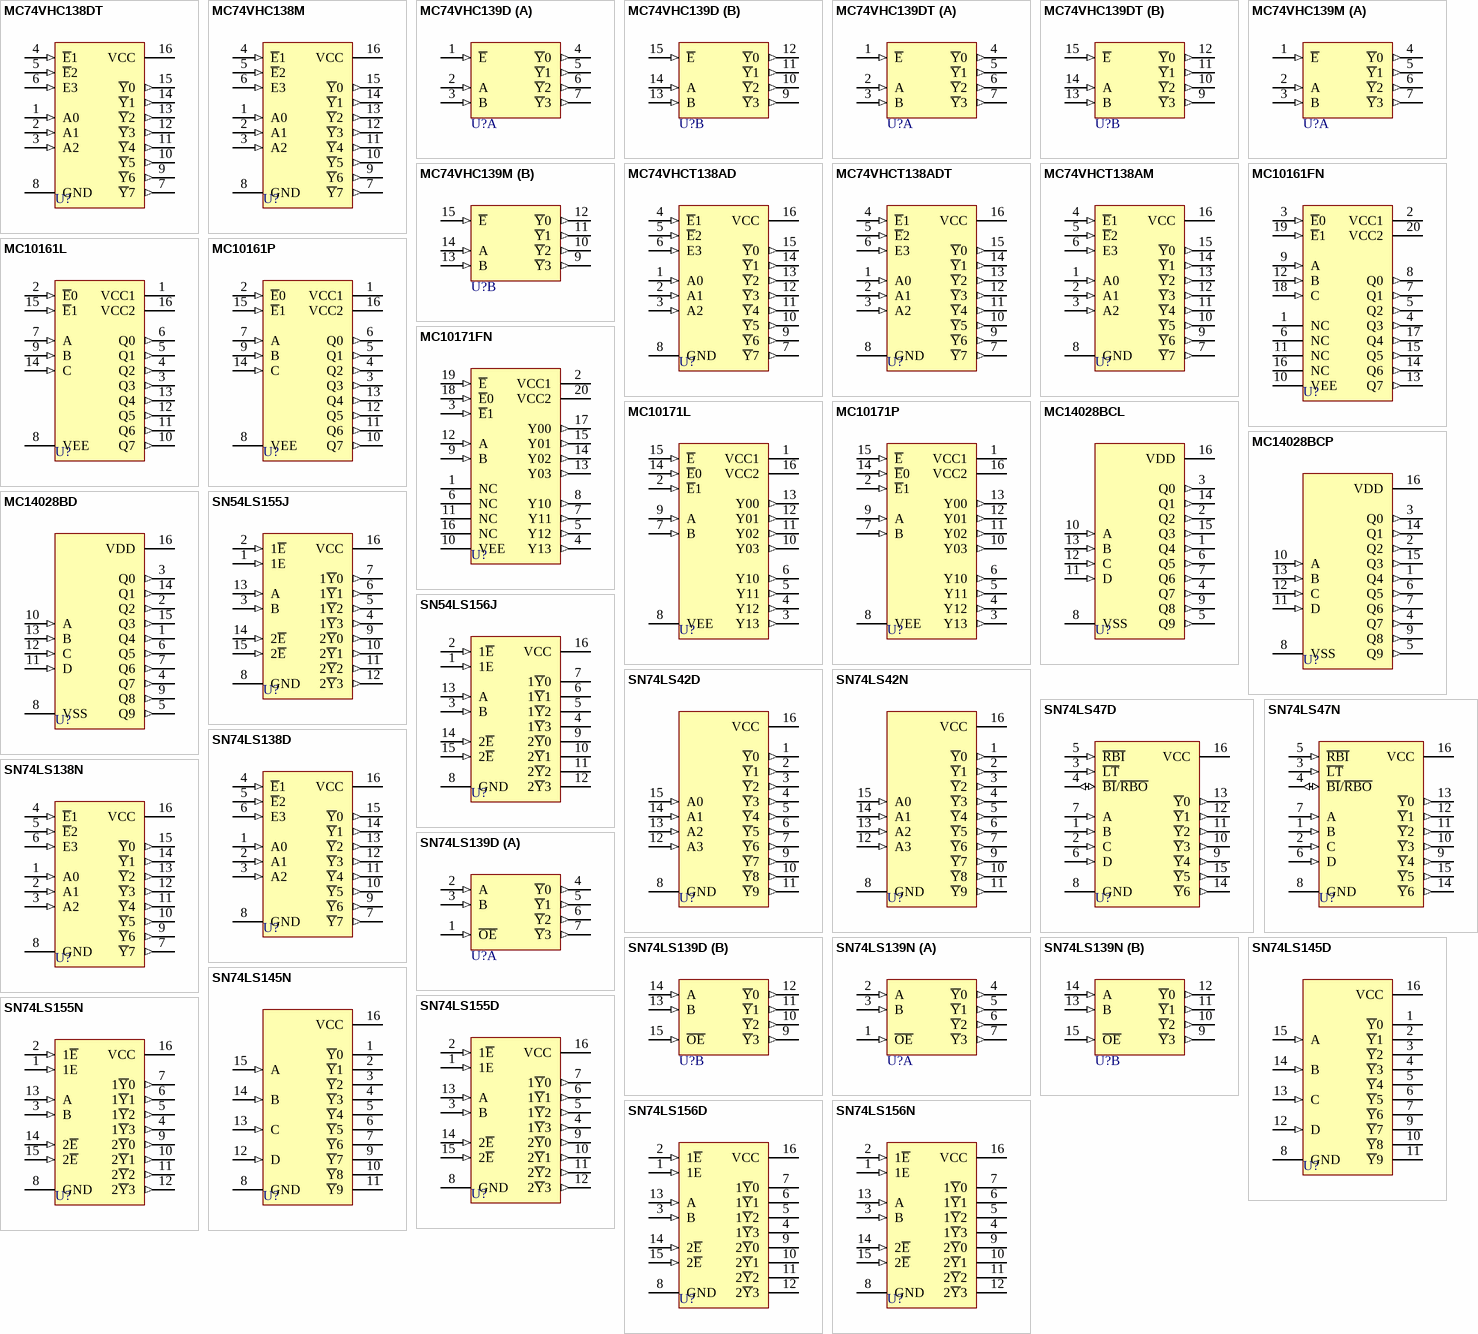
[diagram p1: symbols MC74VHC138DT to SN74LS156N]

## MC74VHC138DT
designator U?
3-to-8 Line Decoder; Published: 15-Apr-2002; LatestRevisionDate: 12-Dec-2006; LatestRevisionNote: IPC-7351 Footprint Added.; DatasheetVersion: 1997; PackageVersion: Feb-2000; PackageReference: 948F-01; Publisher: Altium Limited; PackageDescription: 16-Pin Thin Small Outline Package 0.65 mm Pitch; ComponentLink1Description: Manufacturer Link; ComponentLink1URL: http://www.onsemi.com/; ComponentLink2Description: Datasheet; ComponentLink2URL: http://www.onsemi.com/pub/Collateral/MC74VHC138-D.PDF
footprint 948F-01_N (TSOP, 16-Leads, Body 5x4.4mm, Pitch 0.65mm, IPC Medium Density)
footprint 948F-01_L (TSOP, 16-Leads, Body 5x4.4mm, Pitch 0.65mm, IPC High Density)
footprint 948F-01_M (TSOP, 16-Leads, Body 5x4.4mm, Pitch 0.65mm, IPC Low Density)
pins: 1 A0 (in), 2 A1 (in), 3 A2 (in), 4 ~{E}1 (in), 5 ~{E}2 (in), 6 E3 (in), 7 ~{Y}7 (out), 8 GND (power), 9 ~{Y}6 (out), 10 ~{Y}5 (out), 11 ~{Y}4 (out), 12 ~{Y}3 (out), 13 ~{Y}2 (out), 14 ~{Y}1 (out), 15 ~{Y}0 (out), 16 VCC (power)

## MC74VHC138M
designator U?
3-to-8 Line Decoder; Published: 15-Apr-2002; LatestRevisionDate: 13-Apr-2006; LatestRevisionNote: IPC-7351 Footprint Added.; DatasheetVersion: 1997; PackageVersion: 1997; PackageReference: 966-01; Publisher: Altium Limited; PackageDescription: 16-Pin Small Outline Package 1.27 mm Pitch; ComponentLink1Description: Manufacturer Link; ComponentLink1URL: http://www.onsemi.com/; ComponentLink2Description: Datasheet; ComponentLink2URL: http://www.onsemi.com/pub/Collateral/MC74VHC138-D.PDF
footprint 966-01_N (SOP, 16-Leads, Body 10.2x5.3mm, Pitch 1.27mm, IPC Medium Density)
footprint 966-01_L (SOP, 16-Leads, Body 10.2x5.3mm, Pitch 1.27mm, IPC High Density)
footprint 966-01_M (SOP, 16-Leads, Body 10.2x5.3mm, Pitch 1.27mm, IPC Low Density)
pins: 1 A0 (in), 2 A1 (in), 3 A2 (in), 4 ~{E}1 (in), 5 ~{E}2 (in), 6 E3 (in), 7 ~{Y}7 (out), 8 GND (power), 9 ~{Y}6 (out), 10 ~{Y}5 (out), 11 ~{Y}4 (out), 12 ~{Y}3 (out), 13 ~{Y}2 (out), 14 ~{Y}1 (out), 15 ~{Y}0 (out), 16 VCC (power)

## MC74VHC139D
designator U?
Dual 2-to-4 Decoder/Demultiplexer; Published: 15-Apr-2002; LatestRevisionDate: 13-Apr-2006; LatestRevisionNote: IPC-7351 Footprint Added.; DatasheetVersion: 1997; PackageVersion: Oct-1999; PackageReference: 751B-05; Publisher: Altium Limited; PackageDescription: 16-Pin Small Outline Integrated Circuit 1.27 mm Pitch; Code_JEDEC: MS-012-AC; Code_IPC: SOIC127P600-16; ComponentLink1Description: Manufacturer Link; ComponentLink1URL: http://www.onsemi.com/; ComponentLink2Description: Datasheet; ComponentLink2URL: http://www.onsemi.com/pub/Collateral/MC74VHC139-D.PDF
footprint 751B-05_N (SOIC, 16-Leads, Body 9.9x3.9mm, Pitch 1.27mm, IPC Medium Density)
footprint 751B-05_L (SOIC, 16-Leads, Body 9.9x3.9mm, Pitch 1.27mm, IPC High Density)
footprint 751B-05_M (SOIC, 16-Leads, Body 9.9x3.9mm, Pitch 1.27mm, IPC Low Density)
pins on every part: 8 GND (power) hidden to GND, 16 VCC (power) hidden to VCC
part A pins: 1 ~{E} (in), 2 A (in), 3 B (in), 4 ~{Y}0 (out), 5 ~{Y}1 (out), 6 ~{Y}2 (out), 7 ~{Y}3 (out)
part B pins: 9 ~{Y}3 (out), 10 ~{Y}2 (out), 11 ~{Y}1 (out), 12 ~{Y}0 (out), 13 B (in), 14 A (in), 15 ~{E} (in)

## MC74VHC139DT
designator U?
Dual 2-to-4 Decoder/Demultiplexer; Published: 15-Apr-2002; LatestRevisionDate: 12-Dec-2006; LatestRevisionNote: IPC-7351 Footprint Added.; DatasheetVersion: 1997; PackageVersion: Feb-2000; PackageReference: 948F-01; Publisher: Altium Limited; PackageDescription: 16-Pin Thin Small Outline Package 0.65 mm Pitch; ComponentLink1Description: Manufacturer Link; ComponentLink1URL: http://www.onsemi.com/; ComponentLink2Description: Datasheet; ComponentLink2URL: http://www.onsemi.com/pub/Collateral/MC74VHC139-D.PDF
footprint 948F-01_N (TSOP, 16-Leads, Body 5x4.4mm, Pitch 0.65mm, IPC Medium Density)
footprint 948F-01_L (TSOP, 16-Leads, Body 5x4.4mm, Pitch 0.65mm, IPC High Density)
footprint 948F-01_M (TSOP, 16-Leads, Body 5x4.4mm, Pitch 0.65mm, IPC Low Density)
pins on every part: 8 GND (power) hidden to GND, 16 VCC (power) hidden to VCC
part A pins: 1 ~{E} (in), 2 A (in), 3 B (in), 4 ~{Y}0 (out), 5 ~{Y}1 (out), 6 ~{Y}2 (out), 7 ~{Y}3 (out)
part B pins: 9 ~{Y}3 (out), 10 ~{Y}2 (out), 11 ~{Y}1 (out), 12 ~{Y}0 (out), 13 B (in), 14 A (in), 15 ~{E} (in)

## MC74VHC139M
designator U?
Dual 2-to-4 Decoder/Demultiplexer; Published: 15-Apr-2002; LatestRevisionDate: 13-Apr-2006; LatestRevisionNote: IPC-7351 Footprint Added.; DatasheetVersion: 1997; PackageVersion: 1997; PackageReference: 966-01; Publisher: Altium Limited; PackageDescription: 16-Pin Small Outline Package 1.27 mm Pitch; ComponentLink1Description: Manufacturer Link; ComponentLink1URL: http://www.onsemi.com/; ComponentLink2Description: Datasheet; ComponentLink2URL: http://www.onsemi.com/pub/Collateral/MC74VHC139-D.PDF
footprint 966-01_N (SOP, 16-Leads, Body 10.2x5.3mm, Pitch 1.27mm, IPC Medium Density)
footprint 966-01_L (SOP, 16-Leads, Body 10.2x5.3mm, Pitch 1.27mm, IPC High Density)
footprint 966-01_M (SOP, 16-Leads, Body 10.2x5.3mm, Pitch 1.27mm, IPC Low Density)
pins on every part: 8 GND (power) hidden to GND, 16 VCC (power) hidden to VCC
part A pins: 1 ~{E} (in), 2 A (in), 3 B (in), 4 ~{Y}0 (out), 5 ~{Y}1 (out), 6 ~{Y}2 (out), 7 ~{Y}3 (out)
part B pins: 9 ~{Y}3 (out), 10 ~{Y}2 (out), 11 ~{Y}1 (out), 12 ~{Y}0 (out), 13 B (in), 14 A (in), 15 ~{E} (in)

## MC74VHCT138AD
designator U?
3-to-8 Line Decoder; Published: 15-Apr-2002; LatestRevisionDate: 13-Apr-2006; LatestRevisionNote: IPC-7351 Footprint Added.; DatasheetVersion: 1997; PackageVersion: Oct-1999; PackageReference: 751B-05; Publisher: Altium Limited; PackageDescription: 16-Pin Small Outline Integrated Circuit 1.27 mm Pitch; Code_JEDEC: MS-012-AC; Code_IPC: SOIC127P600-16; ComponentLink1Description: Manufacturer Link; ComponentLink1URL: http://www.onsemi.com/; ComponentLink2Description: Datasheet; ComponentLink2URL: http://www.onsemi.com/pub/Collateral/MC74VHCT138A-D.PDF
footprint 751B-05_N (SOIC, 16-Leads, Body 9.9x3.9mm, Pitch 1.27mm, IPC Medium Density)
footprint 751B-05_L (SOIC, 16-Leads, Body 9.9x3.9mm, Pitch 1.27mm, IPC High Density)
footprint 751B-05_M (SOIC, 16-Leads, Body 9.9x3.9mm, Pitch 1.27mm, IPC Low Density)
pins: 1 A0 (in), 2 A1 (in), 3 A2 (in), 4 ~{E}1 (in), 5 ~{E}2 (in), 6 E3 (in), 7 ~{Y}7 (out), 8 GND (power), 9 ~{Y}6 (out), 10 ~{Y}5 (out), 11 ~{Y}4 (out), 12 ~{Y}3 (out), 13 ~{Y}2 (out), 14 ~{Y}1 (out), 15 ~{Y}0 (out), 16 VCC (power)

## MC74VHCT138ADT
designator U?
3-to-8 Line Decoder; Published: 15-Apr-2002; LatestRevisionDate: 12-Dec-2006; LatestRevisionNote: IPC-7351 Footprint Added.; DatasheetVersion: 1997; PackageVersion: Feb-2000; PackageReference: 948F-01; Publisher: Altium Limited; PackageDescription: 16-Pin Thin Small Outline Package 0.65 mm Pitch; ComponentLink1Description: Manufacturer Link; ComponentLink1URL: http://www.onsemi.com/; ComponentLink2Description: Datasheet; ComponentLink2URL: http://www.onsemi.com/pub/Collateral/MC74VHCT138A-D.PDF
footprint 948F-01_N (TSOP, 16-Leads, Body 5x4.4mm, Pitch 0.65mm, IPC Medium Density)
footprint 948F-01_L (TSOP, 16-Leads, Body 5x4.4mm, Pitch 0.65mm, IPC High Density)
footprint 948F-01_M (TSOP, 16-Leads, Body 5x4.4mm, Pitch 0.65mm, IPC Low Density)
pins: 1 A0 (in), 2 A1 (in), 3 A2 (in), 4 ~{E}1 (in), 5 ~{E}2 (in), 6 E3 (in), 7 ~{Y}7 (out), 8 GND (power), 9 ~{Y}6 (out), 10 ~{Y}5 (out), 11 ~{Y}4 (out), 12 ~{Y}3 (out), 13 ~{Y}2 (out), 14 ~{Y}1 (out), 15 ~{Y}0 (out), 16 VCC (power)

## MC74VHCT138AM
designator U?
3-to-8 Line Decoder; Published: 15-Apr-2002; LatestRevisionDate: 13-Apr-2006; LatestRevisionNote: IPC-7351 Footprint Added.; DatasheetVersion: 1997; PackageVersion: 1997; PackageReference: 966-01; Publisher: Altium Limited; PackageDescription: 16-Pin Small Outline Package 1.27 mm Pitch; ComponentLink1Description: Manufacturer Link; ComponentLink1URL: http://www.onsemi.com/; ComponentLink2Description: Datasheet; ComponentLink2URL: http://www.onsemi.com/pub/Collateral/MC74VHCT138A-D.PDF
footprint 966-01_N (SOP, 16-Leads, Body 10.2x5.3mm, Pitch 1.27mm, IPC Medium Density)
footprint 966-01_L (SOP, 16-Leads, Body 10.2x5.3mm, Pitch 1.27mm, IPC High Density)
footprint 966-01_M (SOP, 16-Leads, Body 10.2x5.3mm, Pitch 1.27mm, IPC Low Density)
pins: 1 A0 (in), 2 A1 (in), 3 A2 (in), 4 ~{E}1 (in), 5 ~{E}2 (in), 6 E3 (in), 7 ~{Y}7 (out), 8 GND (power), 9 ~{Y}6 (out), 10 ~{Y}5 (out), 11 ~{Y}4 (out), 12 ~{Y}3 (out), 13 ~{Y}2 (out), 14 ~{Y}1 (out), 15 ~{Y}0 (out), 16 VCC (power)

## MC10161FN
designator U?
Binary to 1-8 Decoder (Low); Published: 15-Apr-2002; LatestRevisionDate: 13-Apr-2006; LatestRevisionNote: IPC-7351 Footprint Added.; DatasheetVersion: 1996; PackageVersion: 1996; PackageReference: 775-02; Publisher: Altium Limited; PackageDescription: 20-Pin Leaded Chip Carrier 1.27 mm Pitch; ComponentLink1Description: Manufacturer Link; ComponentLink1URL: http://www.onsemi.com/; ComponentLink2Description: Datasheet; ComponentLink2URL: http://www.onsemi.com/pub/Collateral/MC10161-D.PDF
footprint 775-02_N (Leaded Chip Carrier, 20-Leads, Body 9x9mm, Pitch 1.27mm, IPC Medium Density)
footprint 775-02_L (Leaded Chip Carrier, 20-Leads, Body 9x9mm, Pitch 1.27mm, IPC High Density)
footprint 775-02_M (Leaded Chip Carrier, 20-Leads, Body 9x9mm, Pitch 1.27mm, IPC Low Density)
pins: 1 NC, 2 VCC1 (power), 3 ~{E}0 (in), 4 Q3 (out), 5 Q2 (out), 6 NC, 7 Q1 (out), 8 Q0 (out), 9 A (in), 10 VEE (power), 11 NC, 12 B (in), 13 Q7 (out), 14 Q6 (out), 15 Q5 (out), 16 NC, 17 Q4 (out), 18 C (in), 19 ~{E}1 (in), 20 VCC2 (power)

## MC10161L
designator U?
Binary to 1-8 Decoder (Low); Published: 15-Apr-2002; DatasheetVersion: 1996; PackageVersion: 1996; PackageReference: 620-10; Publisher: Altium Limited; PackageDescription: DIP; 16 Leads; Row Spacing 7.62 mm; Pitch 2.54 mm; ComponentLink1Description: Manufacturer Link; ComponentLink1URL: http://www.onsemi.com/; ComponentLink2Description: Datasheet; ComponentLink2URL: http://www.onsemi.com/pub/Collateral/MC10161-D.PDF
footprint 620-10 (DIP; 16 Leads; Row Spacing 7.62 mm; Pitch 2.54 mm)
pins: 1 VCC1 (power), 2 ~{E}0 (in), 3 Q3 (out), 4 Q2 (out), 5 Q1 (out), 6 Q0 (out), 7 A (in), 8 VEE (power), 9 B (in), 10 Q7 (out), 11 Q6 (out), 12 Q5 (out), 13 Q4 (out), 14 C (in), 15 ~{E}1 (in), 16 VCC2 (power)

## MC10161P
designator U?
Binary to 1-8 Decoder (Low); Published: 15-Apr-2002; DatasheetVersion: 1996; PackageVersion: Apr-2000; PackageReference: 648-08; Publisher: Altium Limited; PackageDescription: DIP; 16 Leads; Row Spacing 7.62 mm; Pitch 2.54 mm; Code_JEDEC: MS-001-BB; ComponentLink1Description: Manufacturer Link; ComponentLink1URL: http://www.onsemi.com/; ComponentLink2Description: Datasheet; ComponentLink2URL: http://www.onsemi.com/pub/Collateral/MC10161-D.PDF
footprint 648-08 (DIP; 16 Leads; Row Spacing 7.62 mm; Pitch 2.54 mm)
pins: 1 VCC1 (power), 2 ~{E}0 (in), 3 Q3 (out), 4 Q2 (out), 5 Q1 (out), 6 Q0 (out), 7 A (in), 8 VEE (power), 9 B (in), 10 Q7 (out), 11 Q6 (out), 12 Q5 (out), 13 Q4 (out), 14 C (in), 15 ~{E}1 (in), 16 VCC2 (power)

## MC10171FN
designator U?
Dual Binary to 1-4 Decoder (Low); Published: 15-Apr-2002; LatestRevisionDate: 13-Apr-2006; LatestRevisionNote: IPC-7351 Footprint Added.; DatasheetVersion: 1996; PackageVersion: 1996; PackageReference: 775-02; Publisher: Altium Limited; PackageDescription: 20-Pin Leaded Chip Carrier 1.27 mm Pitch; ComponentLink1Description: Manufacturer Link; ComponentLink1URL: http://www.onsemi.com/; ComponentLink2Description: Datasheet; ComponentLink2URL: http://www.onsemi.com/pub/Collateral/MC10171-D.PDF
footprint 775-02_N (Leaded Chip Carrier, 20-Leads, Body 9x9mm, Pitch 1.27mm, IPC Medium Density)
footprint 775-02_L (Leaded Chip Carrier, 20-Leads, Body 9x9mm, Pitch 1.27mm, IPC High Density)
footprint 775-02_M (Leaded Chip Carrier, 20-Leads, Body 9x9mm, Pitch 1.27mm, IPC Low Density)
pins: 1 NC, 2 VCC1 (power), 3 ~{E}1 (in), 4 Y13 (out), 5 Y12 (out), 6 NC, 7 Y11 (out), 8 Y10 (out), 9 B (in), 10 VEE (power), 11 NC, 12 A (in), 13 Y03 (out), 14 Y02 (out), 15 Y01 (out), 16 NC, 17 Y00 (out), 18 ~{E}0 (in), 19 ~{E} (in), 20 VCC2 (power)

## MC10171L
designator U?
Dual Binary to 1-4 Decoder (Low); Published: 15-Apr-2002; DatasheetVersion: 1996; PackageVersion: 1996; PackageReference: 620-10; Publisher: Altium Limited; PackageDescription: DIP; 16 Leads; Row Spacing 7.62 mm; Pitch 2.54 mm; ComponentLink1Description: Manufacturer Link; ComponentLink1URL: http://www.onsemi.com/; ComponentLink2Description: Datasheet; ComponentLink2URL: http://www.onsemi.com/pub/Collateral/MC10171-D.PDF
footprint 620-10 (DIP; 16 Leads; Row Spacing 7.62 mm; Pitch 2.54 mm)
pins: 1 VCC1 (power), 2 ~{E}1 (in), 3 Y13 (out), 4 Y12 (out), 5 Y11 (out), 6 Y10 (out), 7 B (in), 8 VEE (power), 9 A (in), 10 Y03 (out), 11 Y02 (out), 12 Y01 (out), 13 Y00 (out), 14 ~{E}0 (in), 15 ~{E} (in), 16 VCC2 (power)

## MC10171P
designator U?
Dual Binary to 1-4 Decoder (Low); Published: 15-Apr-2002; DatasheetVersion: 1996; PackageVersion: Apr-2000; PackageReference: 648-08; Publisher: Altium Limited; PackageDescription: DIP; 16 Leads; Row Spacing 7.62 mm; Pitch 2.54 mm; Code_JEDEC: MS-001-BB; ComponentLink1Description: Manufacturer Link; ComponentLink1URL: http://www.onsemi.com/; ComponentLink2Description: Datasheet; ComponentLink2URL: http://www.onsemi.com/pub/Collateral/MC10171-D.PDF
footprint 648-08 (DIP; 16 Leads; Row Spacing 7.62 mm; Pitch 2.54 mm)
pins: 1 VCC1 (power), 2 ~{E}1 (in), 3 Y13 (out), 4 Y12 (out), 5 Y11 (out), 6 Y10 (out), 7 B (in), 8 VEE (power), 9 A (in), 10 Y03 (out), 11 Y02 (out), 12 Y01 (out), 13 Y00 (out), 14 ~{E}0 (in), 15 ~{E} (in), 16 VCC2 (power)

## MC14028BCL
designator U?
BCD-to-Decimal / Binary-to-Octal Decoder; Published: 15-Apr-2002; DatasheetVersion: 1996; PackageVersion: 1996; PackageReference: 620-10; Publisher: Altium Limited; PackageDescription: DIP; 16 Leads; Row Spacing 7.62 mm; Pitch 2.54 mm; ComponentLink1Description: Manufacturer Link; ComponentLink1URL: http://www.onsemi.com/; ComponentLink2Description: Datasheet; ComponentLink2URL: http://www.onsemi.com/pub/Collateral/MC14028B-D.PDF
footprint 620-10 (DIP; 16 Leads; Row Spacing 7.62 mm; Pitch 2.54 mm)
pins: 1 Q4 (out), 2 Q2 (out), 3 Q0 (out), 4 Q7 (out), 5 Q9 (out), 6 Q5 (out), 7 Q6 (out), 8 VSS (power), 9 Q8 (out), 10 A (in), 11 D (in), 12 C (in), 13 B (in), 14 Q1 (out), 15 Q3 (out), 16 VDD (power)

## MC14028BCP
designator U?
BCD-to-Decimal / Binary-to-Octal Decoder; Published: 15-Apr-2002; DatasheetVersion: 1996; PackageVersion: Apr-2000; PackageReference: 648-08; Publisher: Altium Limited; PackageDescription: DIP; 16 Leads; Row Spacing 7.62 mm; Pitch 2.54 mm; Code_JEDEC: MS-001-BB; ComponentLink1Description: Manufacturer Link; ComponentLink1URL: http://www.onsemi.com/; ComponentLink2Description: Datasheet; ComponentLink2URL: http://www.onsemi.com/pub/Collateral/MC14028B-D.PDF
footprint 648-08 (DIP; 16 Leads; Row Spacing 7.62 mm; Pitch 2.54 mm)
pins: 1 Q4 (out), 2 Q2 (out), 3 Q0 (out), 4 Q7 (out), 5 Q9 (out), 6 Q5 (out), 7 Q6 (out), 8 VSS (power), 9 Q8 (out), 10 A (in), 11 D (in), 12 C (in), 13 B (in), 14 Q1 (out), 15 Q3 (out), 16 VDD (power)

## MC14028BD
designator U?
BCD-to-Decimal / Binary-to-Octal Decoder; Published: 15-Apr-2002; LatestRevisionDate: 13-Apr-2006; LatestRevisionNote: IPC-7351 Footprint Added.; DatasheetVersion: 1996; PackageVersion: Oct-1999; PackageReference: 751B-05; Publisher: Altium Limited; PackageDescription: 16-Pin Small Outline Integrated Circuit 1.27 mm Pitch; Code_JEDEC: MS-012-AC; Code_IPC: SOIC127P600-16; ComponentLink1Description: Manufacturer Link; ComponentLink1URL: http://www.onsemi.com/; ComponentLink2Description: Datasheet; ComponentLink2URL: http://www.onsemi.com/pub/Collateral/MC14028B-D.PDF
footprint 751B-05_N (SOIC, 16-Leads, Body 9.9x3.9mm, Pitch 1.27mm, IPC Medium Density)
footprint 751B-05_L (SOIC, 16-Leads, Body 9.9x3.9mm, Pitch 1.27mm, IPC High Density)
footprint 751B-05_M (SOIC, 16-Leads, Body 9.9x3.9mm, Pitch 1.27mm, IPC Low Density)
pins: 1 Q4 (out), 2 Q2 (out), 3 Q0 (out), 4 Q7 (out), 5 Q9 (out), 6 Q5 (out), 7 Q6 (out), 8 VSS (power), 9 Q8 (out), 10 A (in), 11 D (in), 12 C (in), 13 B (in), 14 Q1 (out), 15 Q3 (out), 16 VDD (power)